# Altium footprint library Connector_JST.PcbLib: 558 footprints (part 6 of 35)
Each footprint in its own frame and in the unit in brackets; x right, y up, seen from the top. Pads: shape width x height; smd on the part's side, far side on the other; paste and mask are expansions set on the pad; w line width, h text height; cw(c..) or ccw(c..) is an arc to the next point about the centre after c.
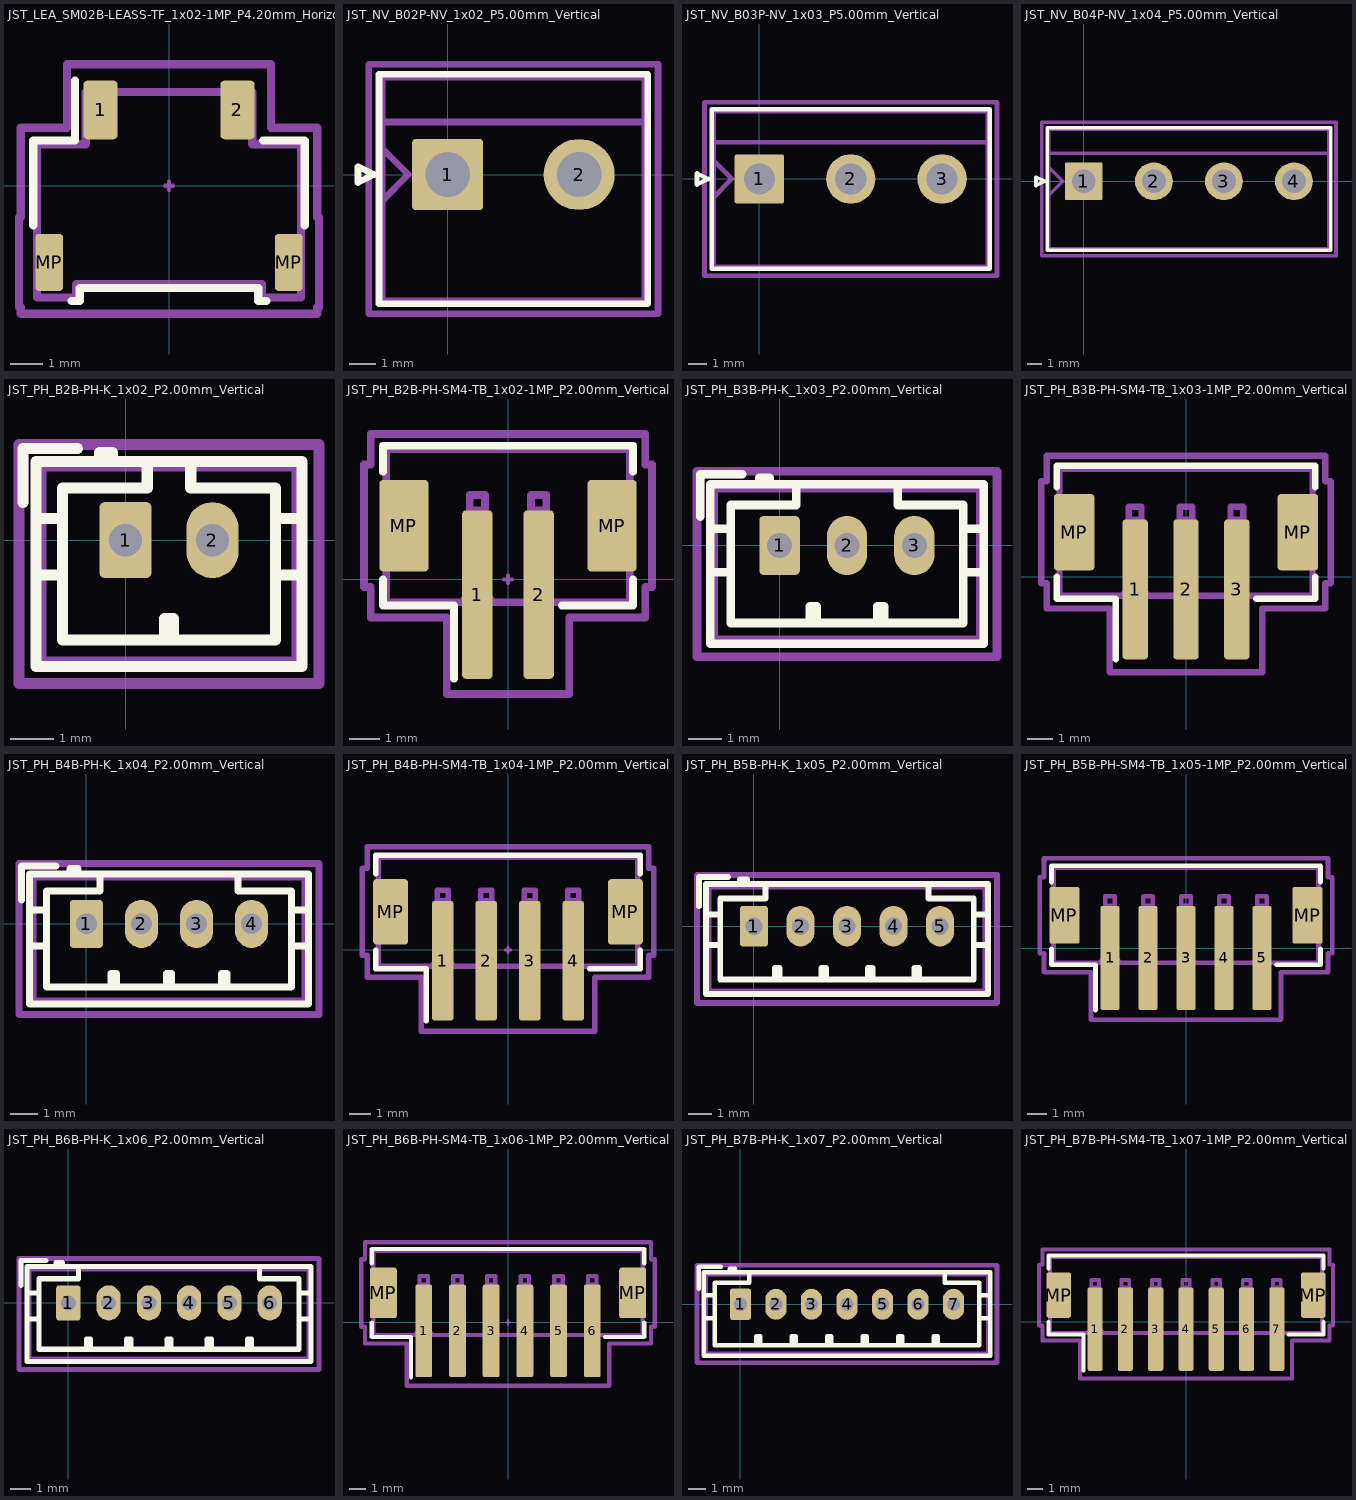
[diagram p5: the footprints below, top view; thin cyan lines are the x and y axes]

## JST_LEA_SM02B-LEASS-TF_1x02-1MP_P4.20mm_Horizontal [mm] "JST_LEA_SM02B-LEASS-TF_1x02-1MP_P4.20mm_Horizontal"
pads (4):
  rrect24% 1.05x1.8 smd: 1(-2.1,2.325) 2(2.1,2.325)
  rrect25% 0.85x1.75 smd: MP(-3.675,-2.35) MP(3.675,-2.35)
F.SilkS:
  lines w0.254: -4.16,-1.215 -4.16,1.385 -2.885,1.385 -2.885,3.225 ; -2.99,-3.535 -2.74,-3.535 -2.74,-3.135 2.74,-3.135 2.74,-3.535 2.99,-3.535 ; 2.885,1.385 4.16,1.385 4.16,-1.215
Top Component Center:
  lines w0.127: -0.127,0 0.127,0 ; 0,-0.127 0,0.127
Top Assembly:
  lines w0.254: -1.65,2.875 -2.1,2.239 -2.55,2.875 ; -2.55,2.875 -2.55,1.275 -4.05,1.275 -4.05,-3.425 -2.85,-3.425 -2.85,-3.025 2.85,-3.025 2.85,-3.425 4.05,-3.425 4.05,1.275 2.55,1.275 2.55,2.875 -2.55,2.875
Top Courtyard:
  lines w0.254: -4.6,-3.73 -4.55,-3.73 -4.55,-3.93 4.55,-3.93 4.55,-3.73 4.6,-3.73 4.6,-0.97 4.55,-0.97 4.55,1.78 3.13,1.78 3.13,3.73 -3.13,3.73 -3.13,1.78 -4.55,1.78 -4.55,-0.97 -4.6,-0.97 -4.6,-3.73
Top Designator:
  text ".Designator" at -3.43,-0.344 h1.52

## JST_NV_B02P-NV_1x02_P5.00mm_Vertical [mm] "JST_NV_B02P-NV_1x02_P5.00mm_Vertical"
pads (2):
  rrect9% 2.7x2.7 hole 1.7: 1(0,0)
  round 2.7 hole 1.7: 2(5,0)
F.SilkS:
  lines w0.254: -3.41,-0.3 -2.81,0 -3.41,0.3 -3.41,-0.3 ; -2.61,-4.91 7.61,-4.91 7.61,3.81 -2.61,3.81 -2.61,-4.91
Top Component Center:
  lines w0.127: -0.127,0 0.127,0 ; 0,-0.127 0,0.127
Top Assembly:
  lines w0.254: -2.5,-1 -1.5,0 -2.5,1 ; -2.5,2 7.5,2 ; -2.5,-4.8 7.5,-4.8 7.5,3.7 -2.5,3.7 -2.5,-4.8
Top Courtyard:
  lines w0.254: -3,-5.3 8,-5.3 8,4.2 -3,4.2 -3,-5.3
Top Designator:
  text ".Designator" at -1.271,-2.503 h1.52

## JST_NV_B03P-NV_1x03_P5.00mm_Vertical [mm] "JST_NV_B03P-NV_1x03_P5.00mm_Vertical"
pads (3):
  rrect9% 2.7x2.7 hole 1.7: 1(0,0)
  round 2.7 hole 1.7: 2(5,0) 3(10,0)
F.SilkS:
  lines w0.254: -3.41,-0.3 -2.81,0 -3.41,0.3 -3.41,-0.3 ; -2.61,-4.91 12.61,-4.91 12.61,3.81 -2.61,3.81 -2.61,-4.91
Top Component Center:
  lines w0.127: -0.127,0 0.127,0 ; 0,-0.127 0,0.127
Top Assembly:
  lines w0.254: -2.5,-1 -1.5,0 -2.5,1 ; -2.5,2 12.5,2 ; -2.5,-4.8 12.5,-4.8 12.5,3.7 -2.5,3.7 -2.5,-4.8
Top Courtyard:
  lines w0.254: -3,-5.3 13,-5.3 13,4.2 -3,4.2 -3,-5.3
Top Designator:
  text ".Designator" at 1.396,-2.63 h1.52

## JST_NV_B04P-NV_1x04_P5.00mm_Vertical [mm] "JST_NV_B04P-NV_1x04_P5.00mm_Vertical"
pads (4):
  rrect9% 2.7x2.7 hole 1.7: 1(0,0)
  round 2.7 hole 1.7: 2(5,0) 3(10,0) 4(15,0)
F.SilkS:
  lines w0.254: -3.41,-0.3 -3.41,0.3 -2.81,0 -3.41,-0.3 ; -2.61,-4.91 -2.61,3.81 17.61,3.81 17.61,-4.91 -2.61,-4.91
Top Component Center:
  lines w0.127: -0.127,0 0.127,0 ; 0,-0.127 0,0.127
Top Assembly:
  lines w0.254: -2.5,-1 -1.5,0 -2.5,1 ; -2.5,2 17.5,2 ; -2.5,-4.8 -2.5,3.7 17.5,3.7 17.5,-4.8 -2.5,-4.8
Top Courtyard:
  lines w0.254: -3,-5.3 -3,4.2 18,4.2 18,-5.3 -3,-5.3
Top Designator:
  text ".Designator" at 4.19,-2.376 h1.52

## JST_PH_B2B-PH-K_1x02_P2.00mm_Vertical [mm] "JST_PH_B2B-PH-K_1x02_P2.00mm_Vertical"
pads (2):
  rrect21% 1.2x1.75 hole 0.75: 1(0,0)
  rrect100% 1.2x1.75 hole 0.75: 2(2,0)
F.SilkS:
  lines w0.254: -2.36,0.86 -2.36,2.11 -1.11,2.11 ; -2.06,-0.8 -1.45,-0.8 ; -2.06,0.5 -1.45,0.5 ; -0.6,1.81 -0.6,2.01 -0.3,2.01 -0.3,1.81 ; -0.6,1.91 -0.3,1.91 ; 0.5,1.81 0.5,1.2 -1.45,1.2 -1.45,-2.3 3.45,-2.3 3.45,1.2 1.5,1.2 1.5,1.81 ; 0.9,-2.3 0.9,-1.8 1.1,-1.8 1.1,-2.3 ; 1,-2.3 1,-1.8 ; 3.45,-0.8 4.06,-0.8 ; 3.45,0.5 4.06,0.5 ; -2.06,-2.91 4.06,-2.91 4.06,1.81 -2.06,1.81 -2.06,-2.91
Top Component Center:
  lines w0.127: -0.127,0 0.127,0 ; 0,-0.127 0,0.127
Top Assembly:
  lines w0.254: -2.36,0.86 -2.36,2.11 -1.11,2.11 ; -1.95,-2.8 3.95,-2.8 3.95,1.7 -1.95,1.7 -1.95,-2.8
Top Courtyard:
  lines w0.254: -2.45,-3.3 4.45,-3.3 4.45,2.2 -2.45,2.2 -2.45,-3.3
Top Designator:
  text ".Designator" at -2.541,-1.995 h1.52
3D body "JST_PH_B2B-PH-K_1x02_P2.00mm_Vertical.step": height 6, standoff -3.4, extent -1.95,-2.8 3.95,1.75

## JST_PH_B2B-PH-SM4-TB_1x02-1MP_P2.00mm_Vertical [mm] "JST_PH_B2B-PH-SM4-TB_1x02-1MP_P2.00mm_Vertical"
pads (4):
  rrect25% 1x5.5 smd: 1(-1,-0.5) 2(1,-0.5)
  rrect16% 1.6x3 smd: MP(-3.4,1.75) MP(3.4,1.75)
F.SilkS:
  lines w0.254: -4.085,-0.01 -4.085,-0.86 -1.76,-0.86 -1.76,-3.25 ; -4.085,3.51 -4.085,4.36 4.085,4.36 4.085,3.51 ; 1.76,-0.86 4.085,-0.86 4.085,-0.01
Top Component Center:
  lines w0.127: -0.127,0 0.127,0 ; 0,-0.127 0,0.127
Top Assembly:
  lines w0.254: -1.5,-0.75 -1,-0.043 -0.5,-0.75 ; -3.975,-0.75 3.975,-0.75 3.975,4.25 -3.975,4.25 -3.975,-0.75 ; -1.25,2.25 -0.75,2.25 -0.75,2.75 -1.25,2.75 -1.25,2.25 ; 0.75,2.25 1.25,2.25 1.25,2.75 0.75,2.75 0.75,2.25
Top Courtyard:
  lines w0.254: -4.7,-0.25 -4.48,-0.25 -4.48,-1.25 -2,-1.25 -2,-3.75 2,-3.75 2,-1.25 4.48,-1.25 4.48,-0.25 4.7,-0.25 4.7,3.75 4.48,3.75 4.48,4.75 -4.48,4.75 -4.48,3.75 -4.7,3.75 -4.7,-0.25
Top Designator:
  text ".Designator" at -3.684,3.212 h1.52

## JST_PH_B3B-PH-K_1x03_P2.00mm_Vertical [mm] "JST_PH_B3B-PH-K_1x03_P2.00mm_Vertical"
pads (3):
  rrect21% 1.2x1.75 hole 0.75: 1(0,0)
  rrect100% 1.2x1.75 hole 0.75: 2(2,0) 3(4,0)
F.SilkS:
  lines w0.254: -2.36,0.86 -2.36,2.11 -1.11,2.11 ; -2.06,-0.8 -1.45,-0.8 ; -2.06,0.5 -1.45,0.5 ; -0.6,1.81 -0.6,2.01 -0.3,2.01 -0.3,1.81 ; -0.6,1.91 -0.3,1.91 ; 0.5,1.81 0.5,1.2 -1.45,1.2 -1.45,-2.3 5.45,-2.3 5.45,1.2 3.5,1.2 3.5,1.81 ; 0.9,-2.3 0.9,-1.8 1.1,-1.8 1.1,-2.3 ; 1,-2.3 1,-1.8 ; 2.9,-2.3 2.9,-1.8 3.1,-1.8 3.1,-2.3 ; 3,-2.3 3,-1.8 ; 5.45,-0.8 6.06,-0.8 ; 5.45,0.5 6.06,0.5 ; -2.06,-2.91 6.06,-2.91 6.06,1.81 -2.06,1.81 -2.06,-2.91
Top Component Center:
  lines w0.127: -0.127,0 0.127,0 ; 0,-0.127 0,0.127
Top Assembly:
  lines w0.254: -2.36,0.86 -2.36,2.11 -1.11,2.11 ; -1.95,-2.8 5.95,-2.8 5.95,1.7 -1.95,1.7 -1.95,-2.8
Top Courtyard:
  lines w0.254: -2.45,-3.3 6.45,-3.3 6.45,2.2 -2.45,2.2 -2.45,-3.3
Top Designator:
  text ".Designator" at -1.525,-1.995 h1.52
3D body "JST_PH_B3B-PH-K_1x03_P2.00mm_Vertical.step": height 6, standoff -3.4, extent -1.95,-2.8 5.95,1.75

## JST_PH_B3B-PH-SM4-TB_1x03-1MP_P2.00mm_Vertical [mm] "JST_PH_B3B-PH-SM4-TB_1x03-1MP_P2.00mm_Vertical"
pads (5):
  rrect25% 1x5.5 smd: 1(-2,-0.5) 2(0,-0.5) 3(2,-0.5)
  rrect16% 1.6x3 smd: MP(-4.4,1.75) MP(4.4,1.75)
F.SilkS:
  lines w0.254: -5.085,-0.01 -5.085,-0.86 -2.76,-0.86 -2.76,-3.25 ; -5.085,3.51 -5.085,4.36 5.085,4.36 5.085,3.51 ; 2.76,-0.86 5.085,-0.86 5.085,-0.01
Top Component Center:
  lines w0.127: -0.127,0 0.127,0 ; 0,-0.127 0,0.127
Top Assembly:
  lines w0.254: -2.5,-0.75 -2,-0.043 -1.5,-0.75 ; -4.975,-0.75 4.975,-0.75 4.975,4.25 -4.975,4.25 -4.975,-0.75 ; -2.25,2.25 -1.75,2.25 -1.75,2.75 -2.25,2.75 -2.25,2.25 ; -0.25,2.25 0.25,2.25 0.25,2.75 -0.25,2.75 -0.25,2.25 ; 1.75,2.25 2.25,2.25 2.25,2.75 1.75,2.75 1.75,2.25
Top Courtyard:
  lines w0.254: -5.7,-0.25 -5.48,-0.25 -5.48,-1.25 -3,-1.25 -3,-3.75 3,-3.75 3,-1.25 5.48,-1.25 5.48,-0.25 5.7,-0.25 5.7,3.75 5.48,3.75 5.48,4.75 -5.48,4.75 -5.48,3.75 -5.7,3.75 -5.7,-0.25
Top Designator:
  text ".Designator" at -3.303,3.212 h1.52

## JST_PH_B4B-PH-K_1x04_P2.00mm_Vertical [mm] "JST_PH_B4B-PH-K_1x04_P2.00mm_Vertical"
pads (4):
  rrect21% 1.2x1.75 hole 0.75: 1(0,0)
  rrect100% 1.2x1.75 hole 0.75: 2(2,0) 3(4,0) 4(6,0)
F.SilkS:
  lines w0.254: -2.36,0.86 -2.36,2.11 -1.11,2.11 ; -2.06,-0.8 -1.45,-0.8 ; -2.06,0.5 -1.45,0.5 ; -0.6,1.81 -0.6,2.01 -0.3,2.01 -0.3,1.81 ; -0.6,1.91 -0.3,1.91 ; 0.5,1.81 0.5,1.2 -1.45,1.2 -1.45,-2.3 7.45,-2.3 7.45,1.2 5.5,1.2 5.5,1.81 ; 0.9,-2.3 0.9,-1.8 1.1,-1.8 1.1,-2.3 ; 1,-2.3 1,-1.8 ; 2.9,-2.3 2.9,-1.8 3.1,-1.8 3.1,-2.3 ; 3,-2.3 3,-1.8 ; 4.9,-2.3 4.9,-1.8 5.1,-1.8 5.1,-2.3 ; 5,-2.3 5,-1.8 ; 7.45,-0.8 8.06,-0.8 ; 7.45,0.5 8.06,0.5 ; -2.06,-2.91 8.06,-2.91 8.06,1.81 -2.06,1.81 -2.06,-2.91
Top Component Center:
  lines w0.127: -0.127,0 0.127,0 ; 0,-0.127 0,0.127
Top Assembly:
  lines w0.254: -2.36,0.86 -2.36,2.11 -1.11,2.11 ; -1.95,-2.8 7.95,-2.8 7.95,1.7 -1.95,1.7 -1.95,-2.8
Top Courtyard:
  lines w0.254: -2.45,-3.3 8.45,-3.3 8.45,2.2 -2.45,2.2 -2.45,-3.3
Top Designator:
  text ".Designator" at -0.382,0.799 h1.52
3D body "JST_PH_B4B-PH-K_1x04_P2.00mm_Vertical.step": height 6, standoff -3.4, extent -1.95,-2.8 7.95,1.75

## JST_PH_B4B-PH-SM4-TB_1x04-1MP_P2.00mm_Vertical [mm] "JST_PH_B4B-PH-SM4-TB_1x04-1MP_P2.00mm_Vertical"
pads (6):
  rrect25% 1x5.5 smd: 1(-3,-0.5) 2(-1,-0.5) 3(1,-0.5) 4(3,-0.5)
  rrect16% 1.6x3 smd: MP(-5.4,1.75) MP(5.4,1.75)
F.SilkS:
  lines w0.254: -6.085,-0.01 -6.085,-0.86 -3.76,-0.86 -3.76,-3.25 ; -6.085,3.51 -6.085,4.36 6.085,4.36 6.085,3.51 ; 3.76,-0.86 6.085,-0.86 6.085,-0.01
Top Component Center:
  lines w0.127: -0.127,0 0.127,0 ; 0,-0.127 0,0.127
Top Assembly:
  lines w0.254: -3.5,-0.75 -3,-0.043 -2.5,-0.75 ; -5.975,-0.75 5.975,-0.75 5.975,4.25 -5.975,4.25 -5.975,-0.75 ; -3.25,2.25 -2.75,2.25 -2.75,2.75 -3.25,2.75 -3.25,2.25 ; -1.25,2.25 -0.75,2.25 -0.75,2.75 -1.25,2.75 -1.25,2.25 ; 0.75,2.25 1.25,2.25 1.25,2.75 0.75,2.75 0.75,2.25 ; 2.75,2.25 3.25,2.25 3.25,2.75 2.75,2.75 2.75,2.25
Top Courtyard:
  lines w0.254: -6.7,-0.25 -6.48,-0.25 -6.48,-1.25 -4,-1.25 -4,-3.75 4,-3.75 4,-1.25 6.48,-1.25 6.48,-0.25 6.7,-0.25 6.7,3.75 6.48,3.75 6.48,4.75 -6.48,4.75 -6.48,3.75 -6.7,3.75 -6.7,-0.25
Top Designator:
  text ".Designator" at -3.557,3.085 h1.52

## JST_PH_B5B-PH-K_1x05_P2.00mm_Vertical [mm] "JST_PH_B5B-PH-K_1x05_P2.00mm_Vertical"
pads (5):
  rrect21% 1.2x1.75 hole 0.75: 1(0,0)
  rrect100% 1.2x1.75 hole 0.75: 2(2,0) 3(4,0) 4(6,0) 5(8,0)
F.SilkS:
  lines w0.254: -2.36,0.86 -2.36,2.11 -1.11,2.11 ; -2.06,-0.8 -1.45,-0.8 ; -2.06,0.5 -1.45,0.5 ; -0.6,1.81 -0.6,2.01 -0.3,2.01 -0.3,1.81 ; -0.6,1.91 -0.3,1.91 ; 0.5,1.81 0.5,1.2 -1.45,1.2 -1.45,-2.3 9.45,-2.3 9.45,1.2 7.5,1.2 7.5,1.81 ; 0.9,-2.3 0.9,-1.8 1.1,-1.8 1.1,-2.3 ; 1,-2.3 1,-1.8 ; 2.9,-2.3 2.9,-1.8 3.1,-1.8 3.1,-2.3 ; 3,-2.3 3,-1.8 ; 4.9,-2.3 4.9,-1.8 5.1,-1.8 5.1,-2.3 ; 5,-2.3 5,-1.8 ; 6.9,-2.3 6.9,-1.8 7.1,-1.8 7.1,-2.3 ; 7,-2.3 7,-1.8 ; 9.45,-0.8 10.06,-0.8 ; 9.45,0.5 10.06,0.5 ; -2.06,-2.91 -2.06,1.81 10.06,1.81 10.06,-2.91 -2.06,-2.91
Top Component Center:
  lines w0.127: -0.127,0 0.127,0 ; 0,-0.127 0,0.127
Top Assembly:
  lines w0.254: -2.36,0.86 -2.36,2.11 -1.11,2.11 ; -1.95,-2.8 -1.95,1.7 9.95,1.7 9.95,-2.8 -1.95,-2.8
Top Courtyard:
  lines w0.254: -2.45,-3.3 -2.45,2.2 10.45,2.2 10.45,-3.3 -2.45,-3.3
Top Designator:
  text ".Designator" at -0.128,0.672 h1.52
3D body "JST_PH_B5B-PH-K_1x05_P2.00mm_Vertical.step": height 6, standoff -3.4, extent -1.95,-2.8 9.95,1.75

## JST_PH_B5B-PH-SM4-TB_1x05-1MP_P2.00mm_Vertical [mm] "JST_PH_B5B-PH-SM4-TB_1x05-1MP_P2.00mm_Vertical"
pads (7):
  rrect25% 1x5.5 smd: 1(-4,-0.5) 2(-2,-0.5) 3(0,-0.5) 4(2,-0.5) 5(4,-0.5)
  rrect16% 1.6x3 smd: MP(-6.4,1.75) MP(6.4,1.75)
F.SilkS:
  lines w0.254: -7.085,-0.01 -7.085,-0.86 -4.76,-0.86 -4.76,-3.25 ; -7.085,3.51 -7.085,4.36 7.085,4.36 7.085,3.51 ; 4.76,-0.86 7.085,-0.86 7.085,-0.01
Top Component Center:
  lines w0.127: -0.127,0 0.127,0 ; 0,-0.127 0,0.127
Top Assembly:
  lines w0.254: -4.5,-0.75 -4,-0.043 -3.5,-0.75 ; -6.975,-0.75 -6.975,4.25 6.975,4.25 6.975,-0.75 -6.975,-0.75 ; -4.25,2.25 -4.25,2.75 -3.75,2.75 -3.75,2.25 -4.25,2.25 ; -2.25,2.25 -2.25,2.75 -1.75,2.75 -1.75,2.25 -2.25,2.25 ; -0.25,2.25 -0.25,2.75 0.25,2.75 0.25,2.25 -0.25,2.25 ; 1.75,2.25 1.75,2.75 2.25,2.75 2.25,2.25 1.75,2.25 ; 3.75,2.25 3.75,2.75 4.25,2.75 4.25,2.25 3.75,2.25
Top Courtyard:
  lines w0.254: -7.7,-0.25 -7.7,3.75 -7.48,3.75 -7.48,4.75 7.48,4.75 7.48,3.75 7.7,3.75 7.7,-0.25 7.48,-0.25 7.48,-1.25 5,-1.25 5,-3.75 -5,-3.75 -5,-1.25 -7.48,-1.25 -7.48,-0.25 -7.7,-0.25
Top Designator:
  text ".Designator" at -3.43,3.212 h1.52

## JST_PH_B6B-PH-K_1x06_P2.00mm_Vertical [mm] "JST_PH_B6B-PH-K_1x06_P2.00mm_Vertical"
pads (6):
  rrect21% 1.2x1.75 hole 0.75: 1(0,0)
  rrect100% 1.2x1.75 hole 0.75: 2(2,0) 3(4,0) 4(6,0) 5(8,0) 6(10,0)
F.SilkS:
  lines w0.254: -2.36,0.86 -2.36,2.11 -1.11,2.11 ; -2.06,-0.8 -1.45,-0.8 ; -2.06,0.5 -1.45,0.5 ; -0.6,1.81 -0.6,2.01 -0.3,2.01 -0.3,1.81 ; -0.6,1.91 -0.3,1.91 ; 0.5,1.81 0.5,1.2 -1.45,1.2 -1.45,-2.3 11.45,-2.3 11.45,1.2 9.5,1.2 9.5,1.81 ; 0.9,-2.3 0.9,-1.8 1.1,-1.8 1.1,-2.3 ; 1,-2.3 1,-1.8 ; 2.9,-2.3 2.9,-1.8 3.1,-1.8 3.1,-2.3 ; 3,-2.3 3,-1.8 ; 4.9,-2.3 4.9,-1.8 5.1,-1.8 5.1,-2.3 ; 5,-2.3 5,-1.8 ; 6.9,-2.3 6.9,-1.8 7.1,-1.8 7.1,-2.3 ; 7,-2.3 7,-1.8 ; 8.9,-2.3 8.9,-1.8 9.1,-1.8 9.1,-2.3 ; 9,-2.3 9,-1.8 ; 11.45,-0.8 12.06,-0.8 ; 11.45,0.5 12.06,0.5 ; -2.06,-2.91 -2.06,1.81 12.06,1.81 12.06,-2.91 -2.06,-2.91
Top Component Center:
  lines w0.127: -0.127,0 0.127,0 ; 0,-0.127 0,0.127
Top Assembly:
  lines w0.254: -2.36,0.86 -2.36,2.11 -1.11,2.11 ; -1.95,-2.8 -1.95,1.7 11.95,1.7 11.95,-2.8 -1.95,-2.8
Top Courtyard:
  lines w0.254: -2.45,-3.3 -2.45,2.2 12.45,2.2 12.45,-3.3 -2.45,-3.3
Top Designator:
  text ".Designator" at 1.65,0.672 h1.52
3D body "JST_PH_B6B-PH-K_1x06_P2.00mm_Vertical.step": height 6, standoff -3.4, extent -1.95,-2.8 11.95,1.75

## JST_PH_B6B-PH-SM4-TB_1x06-1MP_P2.00mm_Vertical [mm] "JST_PH_B6B-PH-SM4-TB_1x06-1MP_P2.00mm_Vertical"
pads (8):
  rrect25% 1x5.5 smd: 1(-5,-0.5) 2(-3,-0.5) 3(-1,-0.5) 4(1,-0.5) 5(3,-0.5) 6(5,-0.5)
  rrect16% 1.6x3 smd: MP(-7.4,1.75) MP(7.4,1.75)
F.SilkS:
  lines w0.254: -8.085,-0.01 -8.085,-0.86 -5.76,-0.86 -5.76,-3.25 ; -8.085,3.51 -8.085,4.36 8.085,4.36 8.085,3.51 ; 5.76,-0.86 8.085,-0.86 8.085,-0.01
Top Component Center:
  lines w0.127: -0.127,0 0.127,0 ; 0,-0.127 0,0.127
Top Assembly:
  lines w0.254: -5.5,-0.75 -5,-0.043 -4.5,-0.75 ; -7.975,-0.75 7.975,-0.75 7.975,4.25 -7.975,4.25 -7.975,-0.75 ; -5.25,2.25 -4.75,2.25 -4.75,2.75 -5.25,2.75 -5.25,2.25 ; -3.25,2.25 -2.75,2.25 -2.75,2.75 -3.25,2.75 -3.25,2.25 ; -1.25,2.25 -0.75,2.25 -0.75,2.75 -1.25,2.75 -1.25,2.25 ; 0.75,2.25 1.25,2.25 1.25,2.75 0.75,2.75 0.75,2.25 ; 2.75,2.25 3.25,2.25 3.25,2.75 2.75,2.75 2.75,2.25 ; 4.75,2.25 5.25,2.25 5.25,2.75 4.75,2.75 4.75,2.25
Top Courtyard:
  lines w0.254: -8.7,-0.25 -8.48,-0.25 -8.48,-1.25 -6,-1.25 -6,-3.75 6,-3.75 6,-1.25 8.48,-1.25 8.48,-0.25 8.7,-0.25 8.7,3.75 8.48,3.75 8.48,4.75 -8.48,4.75 -8.48,3.75 -8.7,3.75 -8.7,-0.25
Top Designator:
  text ".Designator" at -3.557,2.958 h1.52

## JST_PH_B7B-PH-K_1x07_P2.00mm_Vertical [mm] "JST_PH_B7B-PH-K_1x07_P2.00mm_Vertical"
pads (7):
  rrect21% 1.2x1.75 hole 0.75: 1(0,0)
  rrect100% 1.2x1.75 hole 0.75: 2(2,0) 3(4,0) 4(6,0) 5(8,0) 6(10,0) 7(12,0)
F.SilkS:
  lines w0.254: -2.36,0.86 -2.36,2.11 -1.11,2.11 ; -2.06,-0.8 -1.45,-0.8 ; -2.06,0.5 -1.45,0.5 ; -0.6,1.81 -0.6,2.01 -0.3,2.01 -0.3,1.81 ; -0.6,1.91 -0.3,1.91 ; 0.5,1.81 0.5,1.2 -1.45,1.2 -1.45,-2.3 13.45,-2.3 13.45,1.2 11.5,1.2 11.5,1.81 ; 0.9,-2.3 0.9,-1.8 1.1,-1.8 1.1,-2.3 ; 1,-2.3 1,-1.8 ; 2.9,-2.3 2.9,-1.8 3.1,-1.8 3.1,-2.3 ; 3,-2.3 3,-1.8 ; 4.9,-2.3 4.9,-1.8 5.1,-1.8 5.1,-2.3 ; 5,-2.3 5,-1.8 ; 6.9,-2.3 6.9,-1.8 7.1,-1.8 7.1,-2.3 ; 7,-2.3 7,-1.8 ; 8.9,-2.3 8.9,-1.8 9.1,-1.8 9.1,-2.3 ; 9,-2.3 9,-1.8 ; 10.9,-2.3 10.9,-1.8 11.1,-1.8 11.1,-2.3 ; 11,-2.3 11,-1.8 ; 13.45,-0.8 14.06,-0.8 ; 13.45,0.5 14.06,0.5 ; -2.06,-2.91 -2.06,1.81 14.06,1.81 14.06,-2.91 -2.06,-2.91
Top Component Center:
  lines w0.127: -0.127,0 0.127,0 ; 0,-0.127 0,0.127
Top Assembly:
  lines w0.254: -2.36,0.86 -2.36,2.11 -1.11,2.11 ; -1.95,-2.8 -1.95,1.7 13.95,1.7 13.95,-2.8 -1.95,-2.8
Top Courtyard:
  lines w0.254: -2.45,-3.3 -2.45,2.2 14.45,2.2 14.45,-3.3 -2.45,-3.3
Top Designator:
  text ".Designator" at 1.777,0.672 h1.52
3D body "JST_PH_B7B-PH-K_1x07_P2.00mm_Vertical.step": height 6, standoff -3.4, extent -1.95,-2.8 13.95,1.75

## JST_PH_B7B-PH-SM4-TB_1x07-1MP_P2.00mm_Vertical [mm] "JST_PH_B7B-PH-SM4-TB_1x07-1MP_P2.00mm_Vertical"
pads (9):
  rrect25% 1x5.5 smd: 1(-6,-0.5) 2(-4,-0.5) 3(-2,-0.5) 4(0,-0.5) 5(2,-0.5) 6(4,-0.5) 7(6,-0.5)
  rrect16% 1.6x3 smd: MP(-8.4,1.75) MP(8.4,1.75)
F.SilkS:
  lines w0.254: -9.085,-0.01 -9.085,-0.86 -6.76,-0.86 -6.76,-3.25 ; -9.085,3.51 -9.085,4.36 9.085,4.36 9.085,3.51 ; 6.76,-0.86 9.085,-0.86 9.085,-0.01
Top Component Center:
  lines w0.127: -0.127,0 0.127,0 ; 0,-0.127 0,0.127
Top Assembly:
  lines w0.254: -6.5,-0.75 -6,-0.043 -5.5,-0.75 ; -8.975,-0.75 8.975,-0.75 8.975,4.25 -8.975,4.25 -8.975,-0.75 ; -6.25,2.25 -5.75,2.25 -5.75,2.75 -6.25,2.75 -6.25,2.25 ; -4.25,2.25 -3.75,2.25 -3.75,2.75 -4.25,2.75 -4.25,2.25 ; -2.25,2.25 -1.75,2.25 -1.75,2.75 -2.25,2.75 -2.25,2.25 ; -0.25,2.25 0.25,2.25 0.25,2.75 -0.25,2.75 -0.25,2.25 ; 1.75,2.25 2.25,2.25 2.25,2.75 1.75,2.75 1.75,2.25 ; 3.75,2.25 4.25,2.25 4.25,2.75 3.75,2.75 3.75,2.25 ; 5.75,2.25 6.25,2.25 6.25,2.75 5.75,2.75 5.75,2.25
Top Courtyard:
  lines w0.254: -9.7,-0.25 -9.48,-0.25 -9.48,-1.25 -7,-1.25 -7,-3.75 7,-3.75 7,-1.25 9.48,-1.25 9.48,-0.25 9.7,-0.25 9.7,3.75 9.48,3.75 9.48,4.75 -9.48,4.75 -9.48,3.75 -9.7,3.75 -9.7,-0.25
Top Designator:
  text ".Designator" at -3.43,3.212 h1.52